# EAGLE library part M80-6810642 (library gwu_mpnl_ucat_v10 (Samudra Haque N3RDX's conflicted copy 2014-11-21))
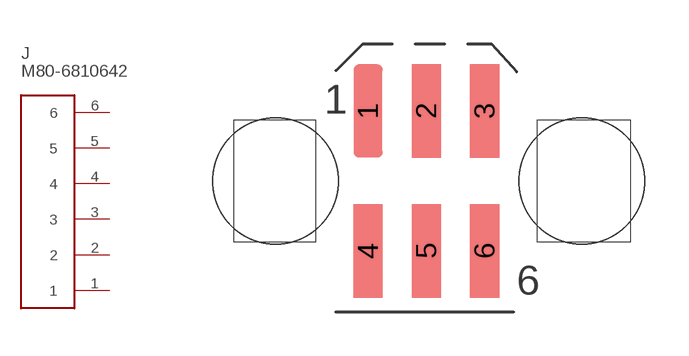
[diagram p2: symbol with the pads of M80-68106; footprint M80-68106]

Designator prefix J

## M80-6810642 (MF: HARWIN; MPN: M80-6810642)  [M80-68106]
1  1
2  2
3  3
4  4
5  5
6  6

## Footprint M80-68106 (pad centres in mm)
smd 1 x 3.2: 1 -2,2.4; 2 0,2.4; 3 2,2.4; 4 -2,-2.4; 5 0,-2.4; 6 2,-2.4
hole 4.318 at -5.175,0
hole 4.318 at 5.335,0